# EAGLE library part FT-POE-MODULE (library Dennistries-Josh)
FreeTronics POE Module Footprint
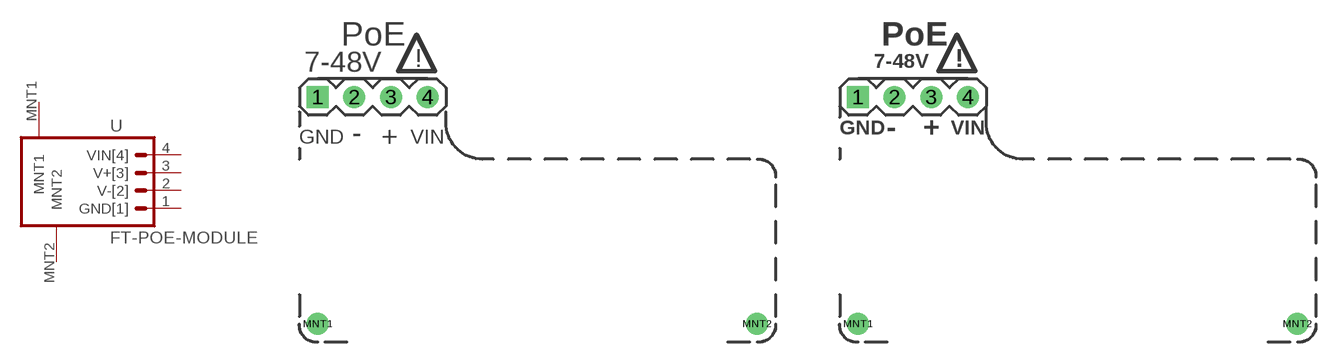
[diagram p59: symbol with the pads of FT-POE-MODULE; footprints FT-POE-MODULE, FT-POE-MODULE-CLEAN]

Designator prefix -

## FT-POE-MODULE1  [FT-POE-MODULE]
1  GND[1]  pas
2  V-[2]  pas
3  V+[3]  pas
4  VIN[4]  pas
MNT1  MNT1  pas
MNT2  MNT2  pas

## FT-POE-MODULE2  [FT-POE-MODULE-CLEAN]
Pads as for FT-POE-MODULE

## FT-POE-MODULE3  [FT-POE-MODULE-NOLABEL]
Pads as for FT-POE-MODULE

## Footprint FT-POE-MODULE (pad centres in mm)
drill 1.016 square: 1 0,0
drill 1.016: 2 2.54,0; 3 5.08,0; 4 7.62,0; MNT1 0,-15.748; MNT2 30.48,-15.748

## Footprint FT-POE-MODULE-CLEAN (pad centres in mm)
drill 1.016 square: 1 0,0
drill 1.016: 2 2.54,0; 3 5.08,0; 4 7.62,0; MNT1 0,-15.748; MNT2 30.48,-15.748

## Footprint FT-POE-MODULE-NOLABEL (pad centres in mm)
drill 1.016 square: 1 0,0
drill 1.016: 2 2.54,0; 3 5.08,0; 4 7.62,0; MNT1 0,-15.748; MNT2 30.48,-15.748